# Altium footprint library PCB - ANTENNA - MOLEX 2042860001.PCBLIB: 1 footprints
Each footprint in its own frame and in the unit in brackets; x right, y up, seen from the top. Pads: shape width x height; smd on the part's side, far side on the other; paste and mask are expansions set on the pad; w line width, h text height; cw(c..) or ccw(c..) is an arc to the next point about the centre after c.
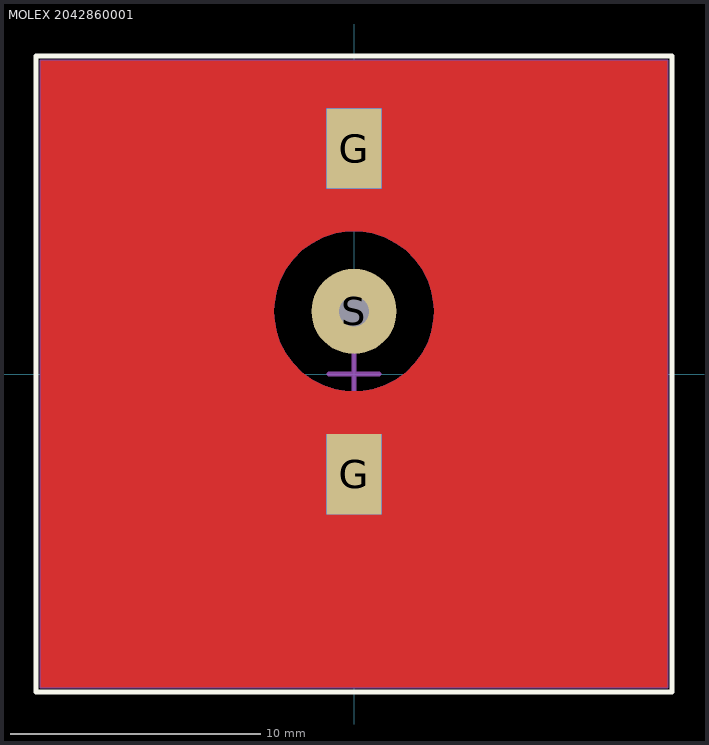
[diagram p0: the footprint, top view; thin cyan lines are the x and y axes]

## MOLEX 2042860001 [mm]
height 5.2
pads (5):
  rect 2.2x3.2 smd paste-10: G(0,-4) G(0,9)
  rect 2.2x3.2 smd far side paste-10: G(0,-4) G(0,9)
  round 3.4 hole 1.2: S(0,2.5)
Top Layer:
  region: -12.5,2.5 -12.5,12.5 12.5,12.5 12.5,2.5 3.2,2.5 3.19,2.751 3.112,3.247 2.956,3.725 2.728,4.172 2.433,4.578 2.078,4.933 1.672,5.228 1.225,5.456 0.747,5.612 0.251,5.69 -0.251,5.69 -0.747,5.612 -1.225,5.456 -1.672,5.228 -2.078,4.933 -2.433,4.578 -2.728,4.172 -2.956,3.725 -3.112,3.247 -3.19,2.751 -3.2,2.5
  region: -12.5,-12.5 -12.5,2.5 -3.2,2.5 -3.19,2.249 -3.112,1.753 -2.956,1.275 -2.728,0.828 -2.433,0.422 -2.078,0.067 -1.672,-0.228 -1.225,-0.456 -0.747,-0.612 -0.251,-0.69 0.251,-0.69 0.747,-0.612 1.225,-0.456 1.672,-0.228 2.078,0.067 2.433,0.422 2.728,0.828 2.956,1.275 3.112,1.753 3.19,2.249 3.2,2.5 12.5,2.5 12.5,-12.5
Bottom Layer:
  region: 12.5,-12.5 12.5,2.5 3.2,2.5 3.19,2.249 3.112,1.753 2.956,1.275 2.728,0.828 2.433,0.422 2.078,0.067 1.672,-0.228 1.225,-0.456 0.747,-0.612 0.251,-0.69 -0.251,-0.69 -0.747,-0.612 -1.225,-0.456 -1.672,-0.228 -2.078,0.067 -2.433,0.422 -2.728,0.828 -2.956,1.275 -3.112,1.753 -3.19,2.249 -3.2,2.5 -12.5,2.5 -12.5,-12.5
  region: 12.5,2.5 12.5,12.5 -12.5,12.5 -12.5,2.5 -3.2,2.5 -3.19,2.751 -3.112,3.247 -2.956,3.725 -2.728,4.172 -2.433,4.578 -2.078,4.933 -1.672,5.228 -1.225,5.456 -0.747,5.612 -0.251,5.69 0.251,5.69 0.747,5.612 1.225,5.456 1.672,5.228 2.078,4.933 2.433,4.578 2.728,4.172 2.956,3.725 3.112,3.247 3.19,2.751 3.2,2.5
Top Overlay:
  lines w0.2: -12.7,-12.7 12.7,-12.7 12.7,12.7 -12.7,12.7 -12.7,-12.7
Mechanical 13:
  lines w0.1: -12.5,-12.5 12.5,-12.5 12.5,12.5 -12.5,12.5 -12.5,-12.5
Mechanical 15:
  lines w0.05: -12.7,-12.7 -12.7,12.7 12.7,12.7 12.7,-12.7 -12.7,-12.7
  lines w0.2: -1,0 1,0 ; 0,-1 0,1
3D body "Molex - 2042860001.step": height 5.15, standoff -2.25, extent -12.5,-12.5 12.5,12.5